# Altium schematic symbol library SCH - LOGIC - 74AC08PW.SCHLIB: 1 symbol
Pins are listed as number, name and electrical type; pins without a type are passive.

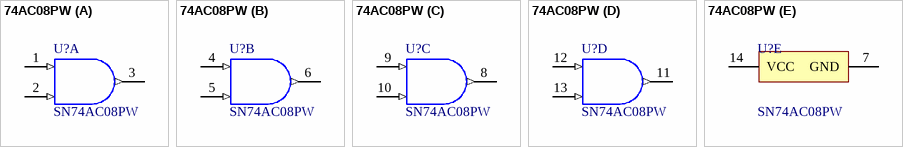
[diagram p0: symbol 74AC08PW]

## 74AC08PW
designator U?, comment SN74AC08PW
Quadruple 2-Input Positive-AND Gates, PW0014A, TUBE
part A pins: 1 1A (in), 2 1B (in), 3 1Y (out)
part B pins: 4 2A (in), 5 2B (in), 6 2Y (out)
part C pins: 8 3Y (out), 9 3A (in), 10 3B (in)
part D pins: 11 4Y (out), 12 4A (in), 13 4B (in)
part E pins: 7 GND (power), 14 VCC (power)